# EAGLE library part AUDIO_BFF (library UNIT_Biblioteca_Modulos)
Audio BFF Source: Datasheet <https://learn.adafruit.com/adafruit-audio-bff> SKU: Propietario: UNIT Electronics Desarrollador: Alberto Villanueva
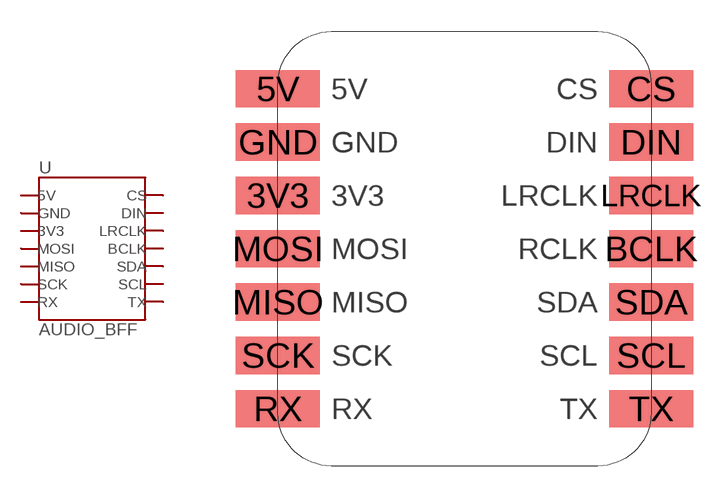
[diagram p24: symbol with the pads of QT_INVERTED; footprint QT_INVERTED]

Designator prefix U

## AUDIO_BFF (CLASS: Modules; DESCRIPTION: MicroSD card slot, I2S 3 Watt amplifier; MANUFACTURER_NAME: Adafruit; MANUFACTURER_PART_NUMBER: Audio BFF; VENDOR_PART_NUMBER: 5769; VENDOR_PRICE-STOCK: https://www.adafruit.com/product/5769)  [QT_INVERTED]
3V3  3V3
5V  5V
BCLK  BCLK
CS  CS
DIN  DIN
GND  GND
LRCLK  LRCLK
MISO  MISO
MOSI  MOSI
RX  RX
SCK  SCK
SCL  SCL
SDA  SDA
TX  TX

## Footprint QT_INVERTED (pad centres in mm)
smd 3.992 x 1.778: 3V3 0,12.89; 5V 0,17.971; BCLK 17.78,10.351; CS 17.78,17.971; DIN 17.78,15.431; GND 0,15.431; LRCLK 17.78,12.89; MISO 0,7.811; MOSI 0,10.351; RX 0,2.731; SCK 0,5.271; SCL 17.78,5.271; SDA 17.78,7.811; TX 17.78,2.731